# EAGLE library part IC_ENC28J60 (library dp_devices)
Ethernet Controller with SPI Interface
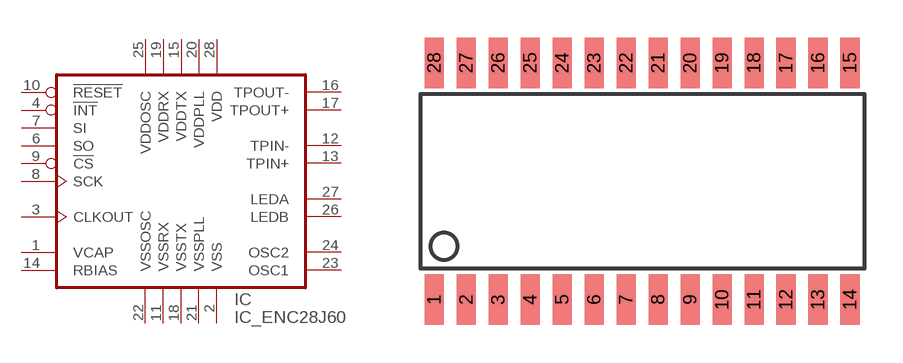
[diagram p96: symbol with the pads of SOIC-28W; footprint SOIC-28W]

Designator prefix IC

## IC_ENC28J60-SOIC-28  [SOIC-28W]
1  VCAP  in
2  VSS  sup
3  CLKOUT  out
4  !INT  out
6  SO  out
7  SI  in
8  SCK  in
9  !CS  in
10  !RESET  in
11  VSSRX  sup
12  TPIN-  in
13  TPIN+  in
14  RBIAS  in
15  VDDTX  sup
16  TPOUT-  out
17  TPOUT+  out
18  VSSTX  sup
19  VDDRX  sup
20  VDDPLL  sup
21  VSSPLL  sup
22  VSSOSC  sup
23  OSC1  in
24  OSC2  out
25  VDDOSC  sup
26  LEDB  out
27  LEDA  out
28  VDD  sup

## Footprint SOIC-28W (pad centres in mm)
smd 0.762 x 2: 1 -8.89,-4.7; 2 -7.62,-4.7; 3 -6.35,-4.7; 4 -5.08,-4.7; 5 -3.81,-4.7; 6 -2.54,-4.7; 7 -1.27,-4.7; 8 0,-4.7; 9 1.27,-4.7; 10 2.54,-4.7; 11 3.81,-4.7; 12 5.08,-4.7; 13 6.35,-4.7; 14 7.62,-4.7; 15 7.62,4.7; 16 6.35,4.7; 17 5.08,4.7; 18 3.81,4.7; 19 2.54,4.7; 20 1.27,4.7; 21 0,4.7; 22 -1.27,4.7; 23 -2.54,4.7; 24 -3.81,4.7; 25 -5.08,4.7; 26 -6.35,4.7; 27 -7.62,4.7; 28 -8.89,4.7